# Altium schematic symbol library SCH - CONNECTORS - HTSS-110-XX-X-DX.SCHLIB: 1 symbol
Pins are listed as number, name and electrical type; pins without a type are passive.

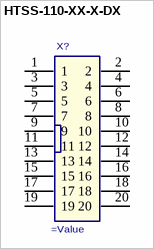
[diagram p0: symbol HTSS-110-XX-X-DX]

## HTSS-110-XX-X-DX
designator X?
2.54mm Double Row Terminal Assembly
pins: 1, 2, 3, 4, 5, 6, 7, 8, 9, 10, 11, 12, 13, 14, 15, 16, 17, 18, 19, 20